# Altium schematic symbol library 004-H-01 SD data logger.SchLib: 59 symbols
Pins are listed as number, name and electrical type; pins without a type are passive.

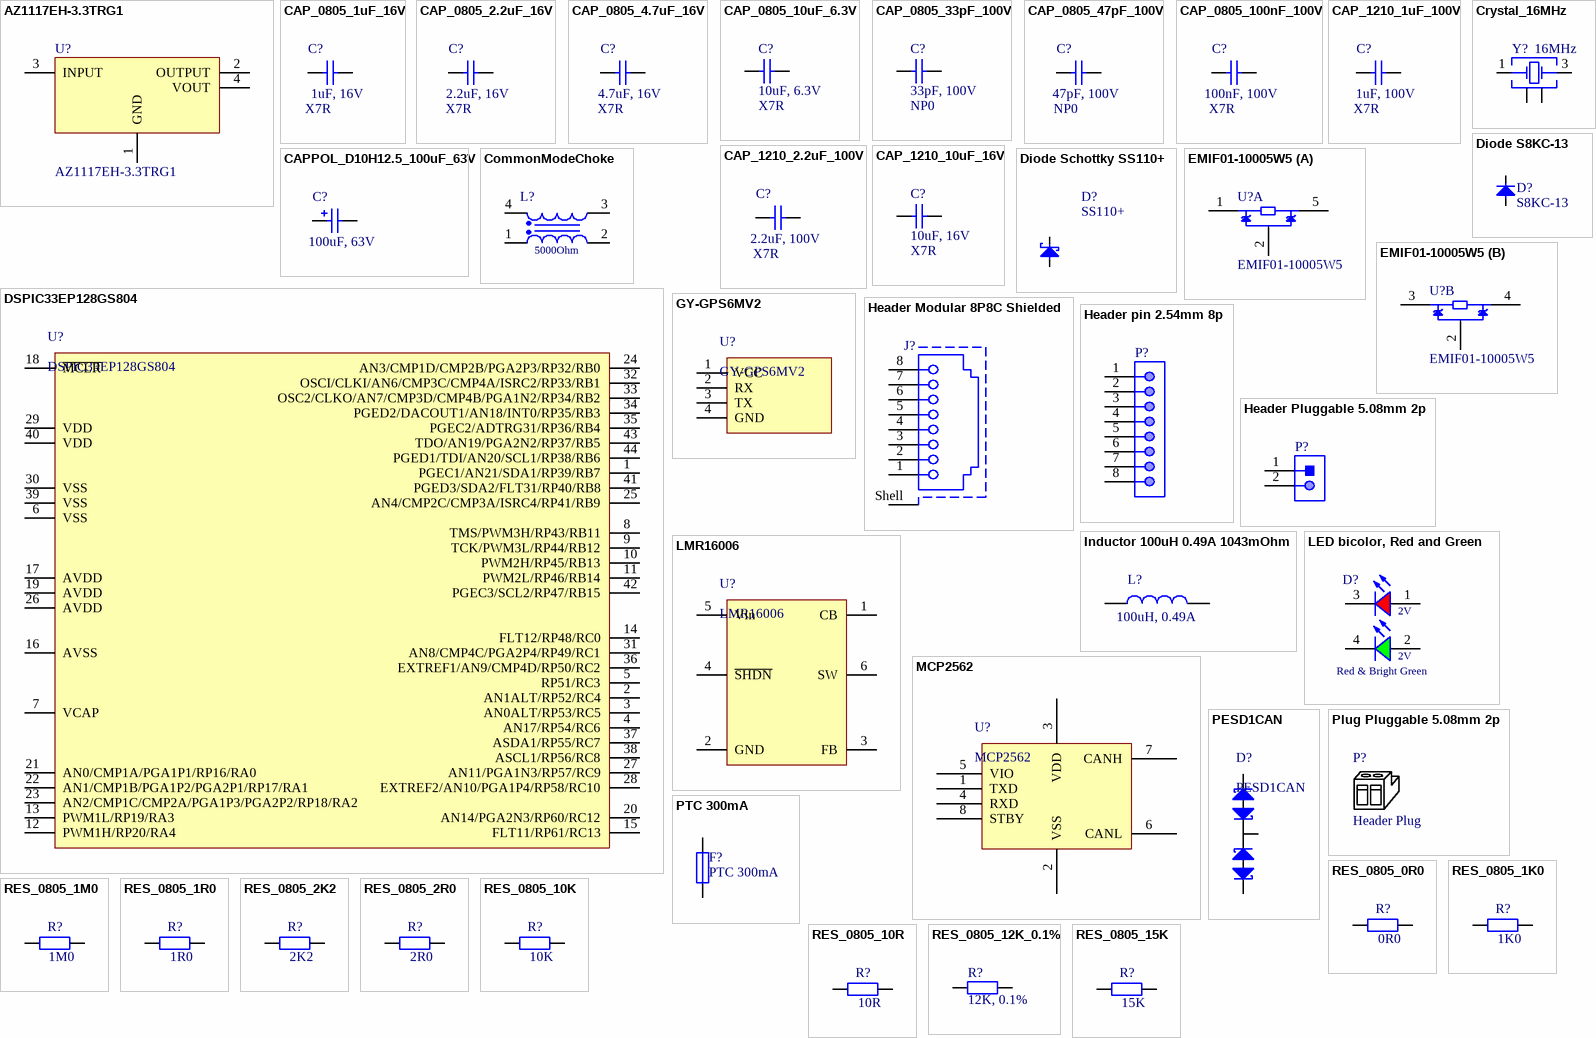
[diagram p0: symbols AZ1117EH-3.3TRG1 to RES_0805_15K]

## AZ1117EH-3.3TRG1
designator U?
IC REG LINEAR 3.3V 1A SOT223; Manufacturer: Diodes Inc; Operating Supply Current: 3.5mA; Polarity: Positive; Reference Voltage: 1.262V; Max Input Voltage: 13V; Accuracy: 1%; Power Supply Rejection Ratio (PSRR): 70dB; Number of Regulators: 1; Dropout Voltage: 1.1V; Output Type: Fixed; Output Voltage: 3.3V; Package Quantity: 4000; Lead Free: Lead Free; Number of Pins: 3; Output Current: 1A; Packaging: Tape and Reel; Min Operating Temperature: -40°C; Max Operating Temperature: 125°C; Quiescent Current: 3.5mA; Contact Plating: Tin; Case/Package: TO-261-4; Weight: 0.000282oz; Mount: Surface Mount; Number of Outputs: 1; Max Output Current: 1A; Manufacturer Part Number: AZ1117EH-3.3TRG1; Supplier 1: Farnell; Supplier Part Number 1: 3483084
footprint FP-SOT223-IPC_A
pins: 1 GND (power), 2 OUTPUT (power), 3 INPUT (power), 4 VOUT (power)

## CAP_0805_1uF_16V
designator C?, comment 1uF, 16V  Ceramic Type: X7R
WCAP-CSGP Multilayer Ceramic Chip Capacitor, General Purpose, size 0805, X7R, 1uF, 16V; Manufacturer Part Number: 885012207051; Manufacturer: Wurth Elektronik; Rated Voltage: 16VDC; Isolation Resistance: >=0.5GOhm; Capacitance Tolerance: +/-10%; Technical Reference: X7R0805105K016DFCT10000; ComponentLink1Description: Manufacturer; ComponentLink1URL: http://www.we-online.de; ComponentLink2Description: Datasheet; ComponentLink2URL: https://www.we-online.com/catalog/datasheet/885012207051.pdf; Operating Temperature: -55 to +125degC; Packaging: Tape and Reel; Published Date: May 2020; Dissipation Factor: =<5%; Height: 1.25mm; Mounting Technology: SMT; Size: 0805; Capacitance: 1uF; Supplier 1: Farnell; Supplier Part Number 1: 2534058
footprint CAP_0805 (Ceramic Capacitor, SMT, body size 2x1.25mm)
pins: 1, 2

## CAP_0805_2.2uF_16V
designator C?, comment 2.2uF, 16V  Ceramic Type: X7R
WCAP-CSGP Multilayer Ceramic Chip Capacitor, General Purpose, size 0805, X7R, 2.2uF, 16V; Manufacturer Part Number: 885012207052; Manufacturer: Wurth Elektronik; Rated Voltage: 16VDC; Isolation Resistance: >=0.05GOhm; Capacitance Tolerance: +/-10%; Technical Reference: X7R0805225K016DFCT10000; ComponentLink1Description: Manufacturer; ComponentLink1URL: http://www.we-online.de; ComponentLink2Description: Datasheet; ComponentLink2URL: https://www.we-online.com/catalog/datasheet/885012207052.pdf; Operating Temperature: -55 to +125degC; Packaging: Tape and Reel; Published Date: May 2020; Dissipation Factor: =<10%; Height: 1.25mm; Mounting Technology: SMT; Size: 0805; Capacitance: 2.2uF; Supplier 1: Farnell; Supplier Part Number 1: 2534059
footprint CAP_0805 (Ceramic Capacitor, SMT, body size 2x1.25mm)
pins: 1, 2

## CAP_0805_4.7uF_16V
designator C?, comment 4.7uF, 16V  Ceramic Type: X7R
WCAP-CSGP Multilayer Ceramic Chip Capacitor, General Purpose, size 0805, X7R, 4.7uF, 16V; Manufacturer Part Number: 885012207053; Manufacturer: Wurth Elektronik; Rated Voltage: 16VDC; Isolation Resistance: >=0.02GOhm; Capacitance Tolerance: +/-10%; Technical Reference: X7R0805475K016DFCT10000; ComponentLink1Description: Manufacturer; ComponentLink1URL: http://www.we-online.de; ComponentLink2Description: Datasheet; ComponentLink2URL: https://www.we-online.com/catalog/datasheet/885012207053.pdf; Operating Temperature: -55 to +125degC; Packaging: Tape and Reel; Published Date: May 2020; Dissipation Factor: =<10%; Height: 1.25mm; Mounting Technology: SMT; Size: 0805; Capacitance: 4.7uF; Supplier 1: Farnell; Supplier Part Number 1: 2495191
footprint CAP_0805 (Ceramic Capacitor, SMT, body size 2x1.25mm)
pins: 1, 2

## CAP_0805_10uF_6.3V
designator C?, comment 10uF, 6.3V  Ceramic Type: X7R
WCAP-CSGP Multilayer Ceramic Chip Capacitor, General Purpose, size 0805, X7R, 10uF, 6.3V; Manufacturer Part Number: 885012207003; Manufacturer: Wurth Elektronik; Rated Voltage: 6.3VDC; Isolation Resistance: >=0.01GOhm; Capacitance Tolerance: +/-10%; Technical Reference: X7R0805106K6R3DFCT10000; ComponentLink1Description: Manufacturer; ComponentLink1URL: http://www.we-online.de; ComponentLink2Description: Datasheet; ComponentLink2URL: https://www.we-online.com/catalog/datasheet/885012207003.pdf; Operating Temperature: -55 to +125degC; Packaging: Tape and Reel; Published Date: May 2020; Dissipation Factor: =<10%; Height: 1.25mm; Mounting Technology: SMT; Size: 0805; Capacitance: 10uF
footprint WCAP-CSGP_0805_H=1.25mm
pins: 1, 2

## CAP_0805_33pF_100V
designator C?, comment 33pF, 100V  Ceramic Type: NP0
WCAP-CSGP Multilayer Ceramic Chip Capacitor, General Purpose, size 0805, NP0, 33pF, 100V; Manufacturer Part Number: 885012007079; Manufacturer: Wurth Elektronik; Rated Voltage: 100VDC; Isolation Resistance: >=10GOhm; Capacitance Tolerance: +/-5%; Dissipation Factor: Q>=1000; Technical Reference: NP00805330J100DFCT10000; ComponentLink1Description: Manufacturer; ComponentLink1URL: http://www.we-online.de; ComponentLink2Description: Datasheet; ComponentLink2URL: https://www.we-online.com/catalog/datasheet/885012007079.pdf; Operating Temperature: -55 to +125degC; Packaging: Tape and Reel; Published Date: May 2020; Height: 0.6mm; Mounting Technology: SMT; Size: 0805; Capacitance: 33pF
footprint CAP_0805 (Ceramic Capacitor, SMT, body size 2x1.25mm)
pins: 1, 2

## CAP_0805_47pF_100V
designator C?, comment 47pF, 100V  Ceramic Type: NP0
WCAP-CSGP Multilayer Ceramic Chip Capacitor, General Purpose, size 0805, NP0, 47pF, 100V; Manufacturer Part Number: 885012007080; Manufacturer: Wurth Elektronik; Rated Voltage: 100VDC; Isolation Resistance: >=10GOhm; Capacitance Tolerance: +/-5%; Dissipation Factor: Q>=1000; Technical Reference: NP00805470J100DFCT10000; ComponentLink1Description: Manufacturer; ComponentLink1URL: http://www.we-online.de; ComponentLink2Description: Datasheet; ComponentLink2URL: https://www.we-online.com/catalog/datasheet/885012007080.pdf; Operating Temperature: -55 to +125degC; Packaging: Tape and Reel; Published Date: May 2020; Height: 0.6mm; Mounting Technology: SMT; Size: 0805; Capacitance: 47pF; Supplier 1: Farnell; Supplier Part Number 1: 2812160
footprint WCAP-CSGP_0805_H=0.6mm_Wave
footprint CAP_0805 (Ceramic Capacitor, SMT, body size 2x1.25mm)
pins: 1, 2

## CAP_0805_100nF_100V
designator C?, comment 100nF, 100V  Ceramic Type: X7R
WCAP-CSGP Multilayer Ceramic Chip Capacitor, General Purpose, size 0805, X7R, 100nF, 100V; Manufacturer Part Number: 885012207128; Manufacturer: Wurth Elektronik; Rated Voltage: 100VDC; Isolation Resistance: >=1GOhm; Capacitance Tolerance: +/-10%; Technical Reference: X7R0805104K100DFCT10000; ComponentLink1Description: Manufacturer; ComponentLink1URL: http://www.we-online.de; ComponentLink2Description: Datasheet; ComponentLink2URL: https://www.we-online.com/catalog/datasheet/885012207128.pdf; Operating Temperature: -55 to +125degC; Packaging: Tape and Reel; Published Date: May 2020; Dissipation Factor: =<2.5%; Height: 1.25mm; Mounting Technology: SMT; Size: 0805; Capacitance: 100nF; Supplier 1: Farnell; Supplier Part Number 1: 2812440
footprint CAP_0805 (Ceramic Capacitor, SMT, body size 2x1.25mm)
pins: 1, 2

## CAP_1210_1uF_100V
designator C?, comment 1uF, 100V  Ceramic Type: X7R
WCAP-CSGP Multilayer Ceramic Chip Capacitor, General Purpose, size 1210, X7R, 1uF, 100V; Manufacturer Part Number: 885012209069; Manufacturer: Wurth Elektronik; Rated Voltage: 100VDC; Isolation Resistance: >=0.1GOhm; Capacitance Tolerance: +/-10%; Technical Reference: X7R1210105K100DFCT10000; ComponentLink1Description: Manufacturer; ComponentLink1URL: http://www.we-online.de; ComponentLink2Description: Datasheet; ComponentLink2URL: https://www.we-online.com/catalog/datasheet/885012209069.pdf; Operating Temperature: -55 to +125degC; Packaging: Tape and Reel; Published Date: May 2020; Dissipation Factor: =<2.5%; Height: 2mm; Mounting Technology: SMT; Size: 1210; Capacitance: 1uF
footprint CAP_1210 (Ceramic Capacitor, SMT, body size 3.2x2.5mm)
pins: 1, 2

## CAP_1210_2.2uF_100V
designator C?, comment 2.2uF, 100V  Ceramic Type: X7R
WCAP-CSGP Multilayer Ceramic Chip Capacitor, General Purpose, size 1210, X7R, 2.2uF, 100V; Manufacturer Part Number: 885012209071; Manufacturer: Wurth Elektronik; Rated Voltage: 100VDC; Isolation Resistance: >=0.05GOhm; Capacitance Tolerance: +/-10%; Technical Reference: X7R1210225K100DFCT10000; ComponentLink1Description: Manufacturer; ComponentLink1URL: http://www.we-online.de; ComponentLink2Description: Datasheet; ComponentLink2URL: https://www.we-online.com/catalog/datasheet/885012209071.pdf; Operating Temperature: -55 to +125degC; Packaging: Tape and Reel; Published Date: May 2020; Dissipation Factor: =<5%; Height: 2.5mm; Mounting Technology: SMT; Size: 1210; Capacitance: 2.2uF
footprint CAP_1210 (Ceramic Capacitor, SMT, body size 3.2x2.5mm)
pins: 1, 2

## CAP_1210_10uF_16V
designator C?, comment 10uF, 16V  Ceramic Type: X7R
WCAP-CSGP Multilayer Ceramic Chip Capacitor, General Purpose, size 1210, X7R, 10uF, 16V; Manufacturer Part Number: 885012209014; Manufacturer: Wurth Elektronik; Rated Voltage: 16VDC; Isolation Resistance: >=0.1GOhm; Capacitance Tolerance: +/-10%; Technical Reference: X7R1210106K016DFCT10000; ComponentLink1Description: Manufacturer; ComponentLink1URL: http://www.we-online.de; ComponentLink2Description: Datasheet; ComponentLink2URL: https://www.we-online.com/catalog/datasheet/885012209014.pdf; Operating Temperature: -55 to +125degC; Packaging: Tape and Reel; Published Date: May 2020; Dissipation Factor: =<5%; Height: 2mm; Mounting Technology: SMT; Size: 1210; Capacitance: 10uF
footprint CAP_1210 (Ceramic Capacitor, SMT, body size 3.2x2.5mm)
pins: 1, 2

## CAPPOL_D10H12.5_100uF_63V
designator C?, comment 100uF, 63V
WCAP-ATLI Aluminum Electrolytic Capacitor, Radial, THT, D10xH12.5mm, 100uF, 63V; Manufacturer Part Number: 860080775013; Manufacturer: Wurth Elektronik; Ripple Current: 720mA; Technical Reference: ATEF125101M063DSPA9E000; Rated Voltage: 63VDC; Leakage Current: 63uA; Endurance: 5000h; Dissipation Factor: 8%; Capacitance Tolerance: +/-20%; Capacitance: 100uF; Published Date: October 2020; Packaging: Ammo Pack; Operating Temperature: -55 to +105degC; Mounting Technology: THT; Height: 12.5mm; Diameter: 10mm; ComponentLink2URL: https://www.we-online.com/catalog/datasheet/860080775013.pdf; ComponentLink2Description: Datasheet; ComponentLink1URL: http://www.we-online.de; ComponentLink1Description: Manufacturer; Supplier 1: Farnell; Supplier Part Number 1: 2465968
footprint CAPPOL_D10H12.5P5 (Aluminum Electrolytic Capacitors, 10x12.5mm)
pins: 1 P, 2 N

## CommonModeChoke
designator L?, comment 5000Ohm
WE-CNSW SMT Common Mode Line Filter, size 1812, 5000Ohm, 0.45A, 60V; Manufacturer Part Number: 744235110; Manufacturer: Wurth Elektronik; DC Resistance max.: 0.8Ohm; Impedance Test Condition: 100MHz; Insulation Test Voltage: 125VAC; Winding Style: bifiliar; ComponentLink1Description: Manufacturer; ComponentLink1URL: http://www.we-online.de; ComponentLink2Description: Datasheet; ComponentLink2URL: https://www.we-online.com/catalog/datasheet/744235110.pdf; Operating Temperature: -40 to +125degC; Packaging: Tape and Reel; Published Date: April 2020; Rated Current: 0.45A; Size: 1812; Impedance: 5000Ohm; Rated Voltage: 60V; Mounting Technology: SMT; Supplier 1: Farnell; Supplier Part Number 1: 2249869
footprint WE-CNSW_1812
pins: 1, 2, 3, 4

## Crystal_16MHz
designator Y?, comment 16MHz
WE-XTAL Quartz Crystal, SMT, 12SMX, 16MHz, +/-30ppm; Manufacturer Part Number: 830026392; Manufacturer: Wurth Elektronik; Frequency Stability: +/-50ppm; Load Capacitance: 16pF; ComponentLink1Description: Manufacturer; ComponentLink1URL: http://www.we-online.de; ComponentLink2Description: Datasheet; ComponentLink2URL: https://katalog.we-online.com/pbs/datasheet/830026392.pdf; Operating Temperature: -20 to +70degC; Packaging: Tape and Reel; Published Date: July 2020; Size: 12SMX; Frequency: 16MHz; Frequency Tolerance: +/-30ppm; Mounting Technology: SMT
footprint WE-XTAL_12SMX
pins: 1 Crystal, 2 GND & Lid, 3 Crystal, 4 GND & Lid

## Diode S8KC-13
designator D?, comment S8KC-13
Diode; Manufacturer: Diodes inc; Manufacturer Part No: S8KC-13; Supplier 1: Farnell; Supplier 2: Farnell; Supplier Part Number 1: 3127431; Supplier Part Number 2: 2675073
footprint DIODEDO-214AB (Molded Diode, 2-Leads, Body 6.86x5.91mm, IPC Medium Density)
pins: 1 K, 2 A

## Diode Schottky SS110+
designator D?, comment SS110+
Diode Schottky; Manufacturer: Multicomp; Manufacturer Part No: SS110+; Supplier 1: Farnell; Supplier Part Number 1: 4085140
footprint DIODEDO-214AC (Molded Diode, 2-Leads, Body 4.4x2.7mm, IPC Medium Density)
pins: 1 K, 2 A

## DSPIC33EP128GS804
designator U?
16-Bit Digital Signal Controllers fo  r Digital Power Applications with   Interconnected High-Speed PWM, ADC, PGA and Comparators; Manufacturer: Microchip; Manufacturer Part No: DSPIC33EP128GS804-I/PT; Supplier 1: Farnell; Supplier Part Number 1: 2706170
footprint TQFP80P1200X1200X120-44N (TQFP, 44-Leads, Body 12.0x12.0mm (max), Pitch 0.80mm, IPC Medium Density)
pins: 1 PGEC1/AN21/SDA1/RP39/RB7, 2 AN1ALT/RP52/RC4, 3 AN0ALT/RP53/RC5, 4 AN17/RP54/RC6, 5 RP51/RC3, 6 VSS, 7 VCAP, 8 TMS/PWM3H/RP43/RB11, 9 TCK/PWM3L/RP44/RB12, 10 PWM2H/RP45/RB13, 11 PWM2L/RP46/RB14, 12 PWM1H/RP20/RA4, 13 PWM1L/RP19/RA3, 14 FLT12/RP48/RC0, 15 FLT11/RP61/RC13, 16 AVSS, 17 AVDD, 18 ~{MCLR}, 19 AVDD, 20 AN14/PGA2N3/RP60/RC12, 21 AN0/CMP1A/PGA1P1/RP16/RA0, 22 AN1/CMP1B/PGA1P2/PGA2P1/RP17/RA1, 23 AN2/CMP1C/CMP2A/PGA1P3/PGA2P2/RP18/RA2, 24 AN3/CMP1D/CMP2B/PGA2P3/RP32/RB0, 25 AN4/CMP2C/CMP3A/ISRC4/RP41/RB9, 26 AVDD, 27 AN11/PGA1N3/RP57/RC9, 28 EXTREF2/AN10/PGA1P4/RP58/RC10, 29 VDD, 30 VSS, 31 AN8/CMP4C/PGA2P4/RP49/RC1, 32 OSCI/CLKI/AN6/CMP3C/CMP4A/ISRC2/RP33/RB1, 33 OSC2/CLKO/AN7/CMP3D/CMP4B/PGA1N2/RP34/RB2, 34 PGED2/DACOUT1/AN18/INT0/RP35/RB3, 35 PGEC2/ADTRG31/RP36/RB4, 36 EXTREF1/AN9/CMP4D/RP50/RC2, 37 ASDA1/RP55/RC7, 38 ASCL1/RP56/RC8, 39 VSS, 40 VDD, 41 PGED3/SDA2/FLT31/RP40/RB8, 42 PGEC3/SCL2/RP47/RB15, 43 TDO/AN19/PGA2N2/RP37/RB5, 44 PGED1/TDI/AN20/SCL1/RP38/RB6

## EMIF01-10005W5
designator U?
2 Line EMI Filter with ESDProtection; Manufacturer: ST Microelectronics; Manufacturer Part No: EMIF01-10005W5; Supplier 1: Farnell; Supplier Part Number 1: 2629722
footprint SOT95P280X110-6N (SOT23, 6-Leads, Body 2.90x2.80mm, Pitch 0.95mm, IPC Medium Density)
part A pins: 1, 2, 5
part B pins: 2, 3, 4

## GY-GPS6MV2
designator U?
GPS module; Manufacturer: NEO; Manufacturer Part No: GY-GPS6MV2
footprint GY-GPS6MV2 (GPS module)
pins: 1 VCC, 2 RX, 3 TX, 4 GND

## Header Modular 8P8C Shielded
designator J?
WR-MJ Modular Jack THT Horizontal Shielded with EMI Panel Finger 8P8C Tab Up; Manufacturer: Wurth Elektronik; Manufacturer Part Number: 615008140621; Rated Current: 1.5A; Contact Resistance: 20mOhm; Insulation Resistance: 500MOhm; Working Voltage: 120VAC; Withstanding Voltage: 1000VAC; ComponentLink1Description: Manufacturer; ComponentLink1URL: http://www.we-online.de; ComponentLink2Description: Datasheet; ComponentLink2URL: https://katalog.we-online.com/em/datasheet/615008140621.pdf; Packaging: Tray; Mounting Technology: THT; Operating Temperature: -40 to +85degC; Published Date: September 2020; xPxC: 8P8C; Type: Horizontal; Supplier 1: Farnell; Supplier Part Number 1: 1841173
footprint WE-615008140621 (Modular Jack Horizontal Shielded with EMI Panel Finger 8P8C Tab Up)
pins: 1, 2, 3, 4, 5, 6, 7, 8, Shell

## Header pin 2.54mm 8p
designator P?
WR-PHD Pin Header, THT, pitch 2.54mm, Single Row, Vertical, 8p; Manufacturer Part Number: 61300811121; Manufacturer: Wurth Elektronik; Pin Number: 8; Rated Current: 3A; Working Voltage: 250VAC; Withstanding Voltage: 500VAC; Contact Resistance: 20mOhm; ComponentLink1Description: Manufacturer; ComponentLink1URL: http://www.we-online.de; ComponentLink2Description: Datasheet; ComponentLink2URL: https://www.we-online.com/catalog/datasheet/61300811121.pdf; Published Date: May 2020; Pitch: 2.54mm; Operating Temperature: -40 to +105degC; Mounting Technology: THT; Packaging: Bag; Gender: Pin Header; Row Number: Single; Orientation: Vertical; Supplier 1: Farnell; Supplier Part Number 1: 2356160
footprint WE-61300811121 (Pin Header, pitch 2.54 mm, THT, Vertical, single row, 8p)
pins: 1, 2, 3, 4, 5, 6, 7, 8

## Header Pluggable 5.08mm 2p
designator P?
WR-TBL Serie 313 Close Horizontal PCB Header, Pluggable, pitch 5.08mm, 2p; Part Number: 691313510002; Compliance: RoHS; Modularity: No; Pin Number: 2; Rated Current [UL]: 20A; Working Voltage [UL]: 300VAC; ComponentLink1Description: Manufacturer; ComponentLink1URL: http://www.we-online.de; ComponentLink2URL: https://katalog.we-online.de/em/datasheet/691313510002.pdf; ComponentLink2Description: Datasheet; Mounting Technology: THT; Packaging: Box; Operating Temperature: -40 to +105degC; PCB/Cable/Panel: PCB; Pitch: 5.08mm; Published Date: October 2019; Type: Horizontal; Publisher: Wurth Elektronik; Application: Pluggable; Supplier 1: Farnell; Supplier Part Number 1: 1641993
footprint WE-691313510002 (5,08mm - PCB Headers - Horizontal - Closed ends - 02p)
pins: 1, 2

## Inductor 100uH 0.49A 1043mOhm
designator L?, comment 100uH, 0.49A
WE-LQS SMT Power Inductor, size 4025, 100uH, 0.49A; Manufacturer: Wurth Elektronik; Manufacturer Part Number: 74404043101A; Saturation Current: 0.29A; Self Resonant Frequency: 11MHz; DC Resistance: 1043mOhm; ComponentLink1Description: Manufacturer; ComponentLink1URL: http://www.we-online.de; ComponentLink2Description: Datasheet; ComponentLink2URL: https://www.we-online.com/catalog/datasheet/74404043101A.pdf; Published Date: May 2020; Rated Current: 0.49A; Operating Temperature: -40 to +125degC; Mounting Technology: SMT; Packaging: Tape and Reel; Inductance: 100uH; Size: 4025; Supplier 1: Farnell; Supplier Part Number 1: 2749073
footprint WE-LQS_4025
pins: 1, 2

## LED bicolor, Red and Green
designator D?, comment Red & Bright Green
WL-SBTW SMD Bi-color TOP LED Waterclear, Red & Bright Green, 120degC; Part Number: 150141RV73100; Viewing Angle: 120deg; Peak Wavelength: 630nm@Red, 572nm@Bright Green; Dominant Wavelength: 625nm@Red, 570nm@Bright Green; Luminous Intensity: 250mcd@Red, 60mcd@Bright Green; Chip Technology: AlInGaP; Forward Voltage: 2V; ComponentLink1Description: Manufacturer; ComponentLink1URL: http://www.we-online.de; ComponentLink2Description: Datasheet; ComponentLink2URL: https://katalog.we-online.de/led/datasheet/150141RV73100.pdf; Published Date: June 2019; Publisher: Wurth Elektronik; Size: 3528; Operating Temperature: -40 to +85degC; Emitting Color: Red & Bright Green; Mounting Technology: SMT; Packaging: Tape and Reel; Supplier 1: Farnell; Supplier Part Number 1: 2322113
footprint WL-SBTW_3528 (SMD Bi-color TOP LED, body 3.2x2.8mm)
pins: 1 A, 2 A, 3 K, 4 K

## LMR16006
designator U?
DC-DC Switching Buck (Step Down) Regulator, Adjustable, 4V-60Vin, 800mV-55Vout, 600mAout, TSOT-23-6; Manufacturer: Texas Instruments; Manufacturer Part No: LMR16006XDDCT; Supplier 1: Farnell; Supplier Part Number 1: 3121632
footprint SOT95P280X110-6N (SOT23, 6-Leads, Body 2.90x2.80mm, Pitch 0.95mm, IPC Medium Density)
pins: 1 CB, 2 GND, 3 FB, 4 ~{SHDN}, 5 Vin, 6 SW

## MCP2562
designator U?
CAN Bus, Transceiver, CAN, LIN, 1, 1, 4.5 V, 5.5 V, SOIC; Manufacturer: Microchip; Manufacturer Part No: MCP2562-E/SN; Supplier 1: Farnell; Supplier Part Number 1: 2362839
footprint SOIC-8N (SOIC, 8-Leads, Body 4.9x3.9mm (max), Pitch 1.27mm, IPC Medium Density)
pins: 1 TXD, 2 VSS, 3 VDD, 4 RXD, 5 VIO, 6 CANL, 7 CANH, 8 STBY

## PESD1CAN
designator D?
ESD Protection Device, TVS, 70 V, SOT-23, 3 Pins; Manufacturer: NXP; Manufacturer Part No: PESD1CAN; Supplier 1: Farnell; Supplier Part Number 1: 1510703
footprint SOT23-3N (SOT23, 3-Leads, Body 3.1x3.0mm (max), Pitch 0.95mm, IPC Medium Density)
pins: 1, 2, 3

## Plug Pluggable 5.08mm 2p
designator P?, comment Header Plug  (mechanical)
WR-TBL Series 351 - 5.08 mm Vertical, pitch 5.08mm, 2p; Part Number: 691351500002; Compliance: RoHS; Modularity: No; PCB/Cable/Panel: Cable; Pin Number: 2; Rated Current [UL]: 20A; Working Voltage [UL]: 300VAC; ComponentLink1Description: Manufacturer; ComponentLink1URL: http://www.we-online.de; ComponentLink2URL: https://katalog.we-online.de/em/datasheet/691313510002.pdf; ComponentLink2Description: Datasheet; Packaging: Box; Operating Temperature: -40 to +105degC; Pitch: 5.08mm; Published Date: October 2019; Type: Plug; Publisher: Wurth Elektronik; Application: Pluggable; Supplier 1: Farnell; Supplier Part Number 1: 1641952

## PTC 300mA
designator F?
Fuse; Manufacturer: Multicomp Pro; Manufacturer Part No: MC33189; Supplier 1: Farnell; Supplier Part Number 1: 1800748
footprint PTC7451X12N (Chip PTC, 2-Leads, Body 7.36x5.12mm, IPC Medium Density)
pins: 1, 2

## RES_0805_0R0
designator R?, comment 0R0
Thick Film Resistor, size 0805, 1%; Rated Power: 0.125W; Resistance Tolerance: +/-1%; Resistance: 0R0; Height: 0.6mm; Operating Temperature: -55 to +155degC; Mounting Technology: SMT; Packaging: Tape and Reel; Size: 0805; Length: 2mm; Width: 1.25mm
footprint RES_0805 (Thick Film Resistors, SMT, body size 2x1.25mm)
pins: 1, 2

## RES_0805_1K0
designator R?, comment 1K0
Thick Film Resistor, size 0805, 1%; Rated Power: 0.125W; Resistance Tolerance: +/-1%; Resistance: 1K0; Height: 0.6mm; Operating Temperature: -55 to +155degC; Mounting Technology: SMT; Packaging: Tape and Reel; Size: 0805; Length: 2mm; Width: 1.25mm
footprint RES_0805 (Thick Film Resistors, SMT, body size 2x1.25mm)
pins: 1, 2

## RES_0805_1M0
designator R?, comment 1M0
Thick Film Resistor, size 0805, 1%; Rated Power: 0.125W; Resistance Tolerance: +/-1%; Resistance: 1M0; Height: 0.6mm; Operating Temperature: -55 to +155degC; Mounting Technology: SMT; Packaging: Tape and Reel; Size: 0805; Length: 2mm; Width: 1.25mm
footprint RES_0805 (Thick Film Resistors, SMT, body size 2x1.25mm)
pins: 1, 2

## RES_0805_1R0
designator R?, comment 1R0
Thick Film Resistor, size 0805, 1%; Rated Power: 0.125W; Resistance Tolerance: +/-1%; Resistance: 1R0; Height: 0.6mm; Operating Temperature: -55 to +155degC; Mounting Technology: SMT; Packaging: Tape and Reel; Size: 0805; Length: 2mm; Width: 1.25mm
footprint RES_0805 (Thick Film Resistors, SMT, body size 2x1.25mm)
pins: 1, 2

## RES_0805_2K2
designator R?, comment 2K2
Thick Film Resistor, size 0805, 1%; Rated Power: 0.125W; Resistance Tolerance: +/-1%; Resistance: 2K2; Height: 0.6mm; Operating Temperature: -55 to +155degC; Mounting Technology: SMT; Packaging: Tape and Reel; Size: 0805; Length: 2mm; Width: 1.25mm
footprint RES_0805 (Thick Film Resistors, SMT, body size 2x1.25mm)
pins: 1, 2

## RES_0805_2R0
designator R?, comment 2R0
Thick Film Resistor, size 0805, 1%; Rated Power: 0.125W; Resistance Tolerance: +/-1%; Resistance: 2R0; Height: 0.6mm; Operating Temperature: -55 to +155degC; Mounting Technology: SMT; Packaging: Tape and Reel; Size: 0805; Length: 2mm; Width: 1.25mm
footprint RES_0805 (Thick Film Resistors, SMT, body size 2x1.25mm)
pins: 1, 2

## RES_0805_10K
designator R?, comment 10K
Thick Film Resistor, size 0805, 1%; Rated Power: 0.125W; Resistance Tolerance: +/-1%; Resistance: 10K; Height: 0.6mm; Operating Temperature: -55 to +155degC; Mounting Technology: SMT; Packaging: Tape and Reel; Size: 0805; Length: 2mm; Width: 1.25mm
footprint RES_0805 (Thick Film Resistors, SMT, body size 2x1.25mm)
pins: 1, 2

## RES_0805_10R
designator R?, comment 10R
Thick Film Resistor, size 0805, 1%; Rated Power: 0.125W; Resistance Tolerance: +/-1%; Resistance: 10R; Height: 0.6mm; Operating Temperature: -55 to +155degC; Mounting Technology: SMT; Packaging: Tape and Reel; Size: 0805; Length: 2mm; Width: 1.25mm
footprint RES_0805 (Thick Film Resistors, SMT, body size 2x1.25mm)
pins: 1, 2

## RES_0805_12K_0.1%
designator R?, comment 12K, 0.1%
Thick Film Resistor, size 0805, 0.1%; Rated Power: 0.125W; Resistance Tolerance: +/-0.1%; Resistance: 12K; Height: 0.6mm; Operating Temperature: -55 to +155degC; Mounting Technology: SMT; Packaging: Tape and Reel; Size: 0805; Length: 2mm; Width: 1.25mm
footprint RES_0805 (Thick Film Resistors, SMT, body size 2x1.25mm)
pins: 1, 2

## RES_0805_15K
designator R?, comment 15K
Thick Film Resistor, size 0805, 1%; Rated Power: 0.125W; Resistance Tolerance: +/-1%; Resistance: 15K; Height: 0.6mm; Operating Temperature: -55 to +155degC; Mounting Technology: SMT; Packaging: Tape and Reel; Size: 0805; Length: 2mm; Width: 1.25mm
footprint RES_0805 (Thick Film Resistors, SMT, body size 2x1.25mm)
pins: 1, 2

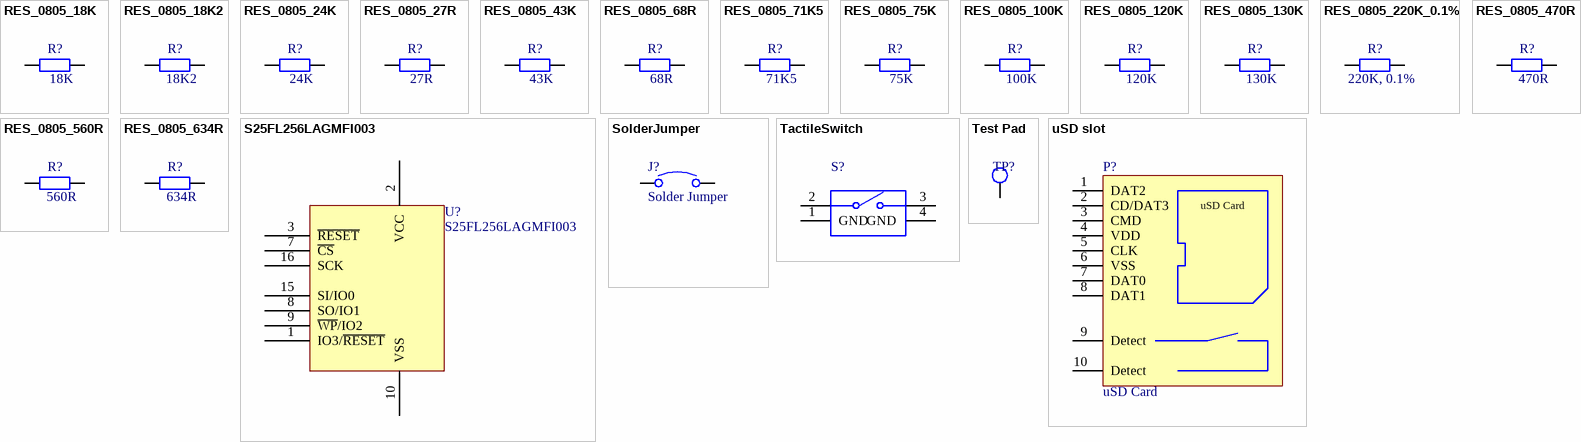
[diagram p1: symbols RES_0805_18K to uSD slot]

## RES_0805_18K
designator R?, comment 18K
Thick Film Resistor, size 0805, 1%; Rated Power: 0.125W; Resistance Tolerance: +/-1%; Resistance: 18K; Height: 0.6mm; Operating Temperature: -55 to +155degC; Mounting Technology: SMT; Packaging: Tape and Reel; Size: 0805; Length: 2mm; Width: 1.25mm
footprint RES_0805 (Thick Film Resistors, SMT, body size 2x1.25mm)
pins: 1, 2

## RES_0805_18K2
designator R?, comment 18K2
Thick Film Resistor, size 0805, 1%; Rated Power: 0.125W; Resistance Tolerance: +/-1%; Resistance: 18K2; Height: 0.6mm; Operating Temperature: -55 to +155degC; Mounting Technology: SMT; Packaging: Tape and Reel; Size: 0805; Length: 2mm; Width: 1.25mm
footprint RES_0805 (Thick Film Resistors, SMT, body size 2x1.25mm)
pins: 1, 2

## RES_0805_24K
designator R?, comment 24K
Thick Film Resistor, size 0805, 1%; Rated Power: 0.125W; Resistance Tolerance: +/-1%; Resistance: 24K; Height: 0.6mm; Operating Temperature: -55 to +155degC; Mounting Technology: SMT; Packaging: Tape and Reel; Size: 0805; Length: 2mm; Width: 1.25mm
footprint RES_0805 (Thick Film Resistors, SMT, body size 2x1.25mm)
pins: 1, 2

## RES_0805_27R
designator R?, comment 27R
Thick Film Resistor, size 0805, 1%; Rated Power: 0.125W; Resistance Tolerance: +/-1%; Resistance: 27R; Height: 0.6mm; Operating Temperature: -55 to +155degC; Mounting Technology: SMT; Packaging: Tape and Reel; Size: 0805; Length: 2mm; Width: 1.25mm
footprint RES_0805 (Thick Film Resistors, SMT, body size 2x1.25mm)
pins: 1, 2

## RES_0805_43K
designator R?, comment 43K
Thick Film Resistor, size 0805, 1%; Rated Power: 0.125W; Resistance Tolerance: +/-1%; Resistance: 43K; Height: 0.6mm; Operating Temperature: -55 to +155degC; Mounting Technology: SMT; Packaging: Tape and Reel; Size: 0805; Length: 2mm; Width: 1.25mm
footprint RES_0805 (Thick Film Resistors, SMT, body size 2x1.25mm)
pins: 1, 2

## RES_0805_68R
designator R?, comment 68R
Thick Film Resistor, size 0805, 1%; Rated Power: 0.125W; Resistance Tolerance: +/-1%; Resistance: 68R; Height: 0.6mm; Operating Temperature: -55 to +155degC; Mounting Technology: SMT; Packaging: Tape and Reel; Size: 0805; Length: 2mm; Width: 1.25mm
footprint RES_0805 (Thick Film Resistors, SMT, body size 2x1.25mm)
pins: 1, 2

## RES_0805_71K5
designator R?, comment 71K5
Thick Film Resistor, size 0805, 1%; Rated Power: 0.125W; Resistance Tolerance: +/-1%; Resistance: 71K5; Height: 0.6mm; Operating Temperature: -55 to +155degC; Mounting Technology: SMT; Packaging: Tape and Reel; Size: 0805; Length: 2mm; Width: 1.25mm
footprint RES_0805 (Thick Film Resistors, SMT, body size 2x1.25mm)
pins: 1, 2

## RES_0805_75K
designator R?, comment 75K
Thick Film Resistor, size 0805, 1%; Rated Power: 0.125W; Resistance Tolerance: +/-1%; Resistance: 75K; Height: 0.6mm; Operating Temperature: -55 to +155degC; Mounting Technology: SMT; Packaging: Tape and Reel; Size: 0805; Length: 2mm; Width: 1.25mm
footprint RES_0805 (Thick Film Resistors, SMT, body size 2x1.25mm)
pins: 1, 2

## RES_0805_100K
designator R?, comment 100K
Thick Film Resistor, size 0805, 1%; Rated Power: 0.125W; Resistance Tolerance: +/-1%; Resistance: 100K; Height: 0.6mm; Operating Temperature: -55 to +155degC; Mounting Technology: SMT; Packaging: Tape and Reel; Size: 0805; Length: 2mm; Width: 1.25mm
footprint RES_0805 (Thick Film Resistors, SMT, body size 2x1.25mm)
pins: 1, 2

## RES_0805_120K
designator R?, comment 120K
Thick Film Resistor, size 0805, 1%; Rated Power: 0.125W; Resistance Tolerance: +/-1%; Resistance: 120K; Height: 0.6mm; Operating Temperature: -55 to +155degC; Mounting Technology: SMT; Packaging: Tape and Reel; Size: 0805; Length: 2mm; Width: 1.25mm
footprint RES_0805 (Thick Film Resistors, SMT, body size 2x1.25mm)
pins: 1, 2

## RES_0805_130K
designator R?, comment 130K
Thick Film Resistor, size 0805, 1%; Rated Power: 0.125W; Resistance Tolerance: +/-1%; Resistance: 130K; Height: 0.6mm; Operating Temperature: -55 to +155degC; Mounting Technology: SMT; Packaging: Tape and Reel; Size: 0805; Length: 2mm; Width: 1.25mm
footprint RES_0805 (Thick Film Resistors, SMT, body size 2x1.25mm)
pins: 1, 2

## RES_0805_220K_0.1%
designator R?, comment 220K, 0.1%
Thick Film Resistor, size 0805, 0.1%; Rated Power: 0.125W; Resistance Tolerance: +/-0.1%; Resistance: 220K; Height: 0.6mm; Operating Temperature: -55 to +155degC; Mounting Technology: SMT; Packaging: Tape and Reel; Size: 0805; Length: 2mm; Width: 1.25mm
footprint RES_0805 (Thick Film Resistors, SMT, body size 2x1.25mm)
pins: 1, 2

## RES_0805_470R
designator R?, comment 470R
Thick Film Resistor, size 0805, 1%; Rated Power: 0.125W; Resistance Tolerance: +/-1%; Resistance: 470R; Height: 0.6mm; Operating Temperature: -55 to +155degC; Mounting Technology: SMT; Packaging: Tape and Reel; Size: 0805; Length: 2mm; Width: 1.25mm
footprint RES_0805 (Thick Film Resistors, SMT, body size 2x1.25mm)
pins: 1, 2

## RES_0805_560R
designator R?, comment 560R
Thick Film Resistor, size 0805, 1%; Rated Power: 0.125W; Resistance Tolerance: +/-1%; Resistance: 560R; Height: 0.6mm; Operating Temperature: -55 to +155degC; Mounting Technology: SMT; Packaging: Tape and Reel; Size: 0805; Length: 2mm; Width: 1.25mm
footprint RES_0805 (Thick Film Resistors, SMT, body size 2x1.25mm)
pins: 1, 2

## RES_0805_634R
designator R?, comment 634R
Thick Film Resistor, size 0805, 1%; Rated Power: 0.125W; Resistance Tolerance: +/-1%; Resistance: 634R; Height: 0.6mm; Operating Temperature: -55 to +155degC; Mounting Technology: SMT; Packaging: Tape and Reel; Size: 0805; Length: 2mm; Width: 1.25mm
footprint RES_0805 (Thick Film Resistors, SMT, body size 2x1.25mm)
pins: 1, 2

## S25FL256LAGMFI003
designator U?
Flash Memory, Floating Gate Architecture, Serial NOR, 256 Mbit, 32M x 8bit, SPI, WSOIC, 16 Pins; Manufacturer: Cypress - Infineon Technologies; Manufacturer Part No: S25FL256LAGMFI003; Supplier 1: Farnell; Supplier Part Number 1: 2768046
footprint SOIC127P1030X265-16N (SOIC, 16-Leads, Body 10.30x7.50mm, Pitch 1.27mm, IPC Medium Density)
pins: 1 IO3/~{RESET}, 2 VCC, 3 ~{RESET}, 7 ~{CS}, 8 SO/IO1, 9 ~{WP}/IO2, 10 VSS, 15 SI/IO0, 16 SCK

## SolderJumper
designator J?, comment Solder Jumper  (no BOM)
Solder jumper open; Manufacturer: -; Manufacturer Part No: -
footprint SolderJumer (Solder jumper open)
pins: 1, 2

## TactileSwitch
designator S?
WS-TATU THT Tact Switch 6x6mm Right Angled Type with ground terminal, height 3.85mm, 160gf; Part Number: 431256038716; Rated Voltage: 12VDC; Rated Current: 50mA; Washable: No; ComponentLink1Description: Manufacturer; ComponentLink1URL: http://www.we-online.de; ComponentLink2Description: Datasheet; ComponentLink2URL: https://katalog.we-online.com/em/datasheet/431256038716.pdf; Operating Temperature: -40 to +85degC; Published Date: September 2019; Contact Material: Stainless Steel; Height: 3.85mm; Mounting Technology: THT; Contact Plating: Silver; Operation Force: 160gf; Packaging: Bulk; Terminal Material: Copper Alloy; Publisher: Wurth Elektronik; Terminal Plating: Silver
footprint 4312560387x6
pins: 1 GND, 2, 3, 4 GND

## Test Pad
designator TP?  (value not drawn)  (no BOM)
Test pad 2mm; Manufacturer: -; Manufacturer Part No: -
footprint TestPad (Test pad 2mm)
pins: 1

## uSD slot
designator P?, comment uSD Card
SD slot connector with card detect; Manufacturer: Hirose; Manufacturer Part No: DM3AT-SF-PEJM5; Supplier 1: Farnell; Supplier Part Number 1: 2427719
footprint DM3AT-SF-PEJM5 (Memory Socket Micro SD card)
pins: 1 DAT2, 2 CD/DAT3, 3 CMD, 4 VDD, 5 CLK, 6 VSS, 7 DAT0, 8 DAT1, 9 Detect, 10 Detect